# Altium footprint library Guitar_Multi_Effect_lib.PcbLib: 38 footprints (part 2 of 3)
Each footprint in its own frame and in the unit in brackets; x right, y up, seen from the top. Pads: shape width x height; smd on the part's side, far side on the other; paste and mask are expansions set on the pad; w line width, h text height; cw(c..) or ccw(c..) is an arc to the next point about the centre after c.
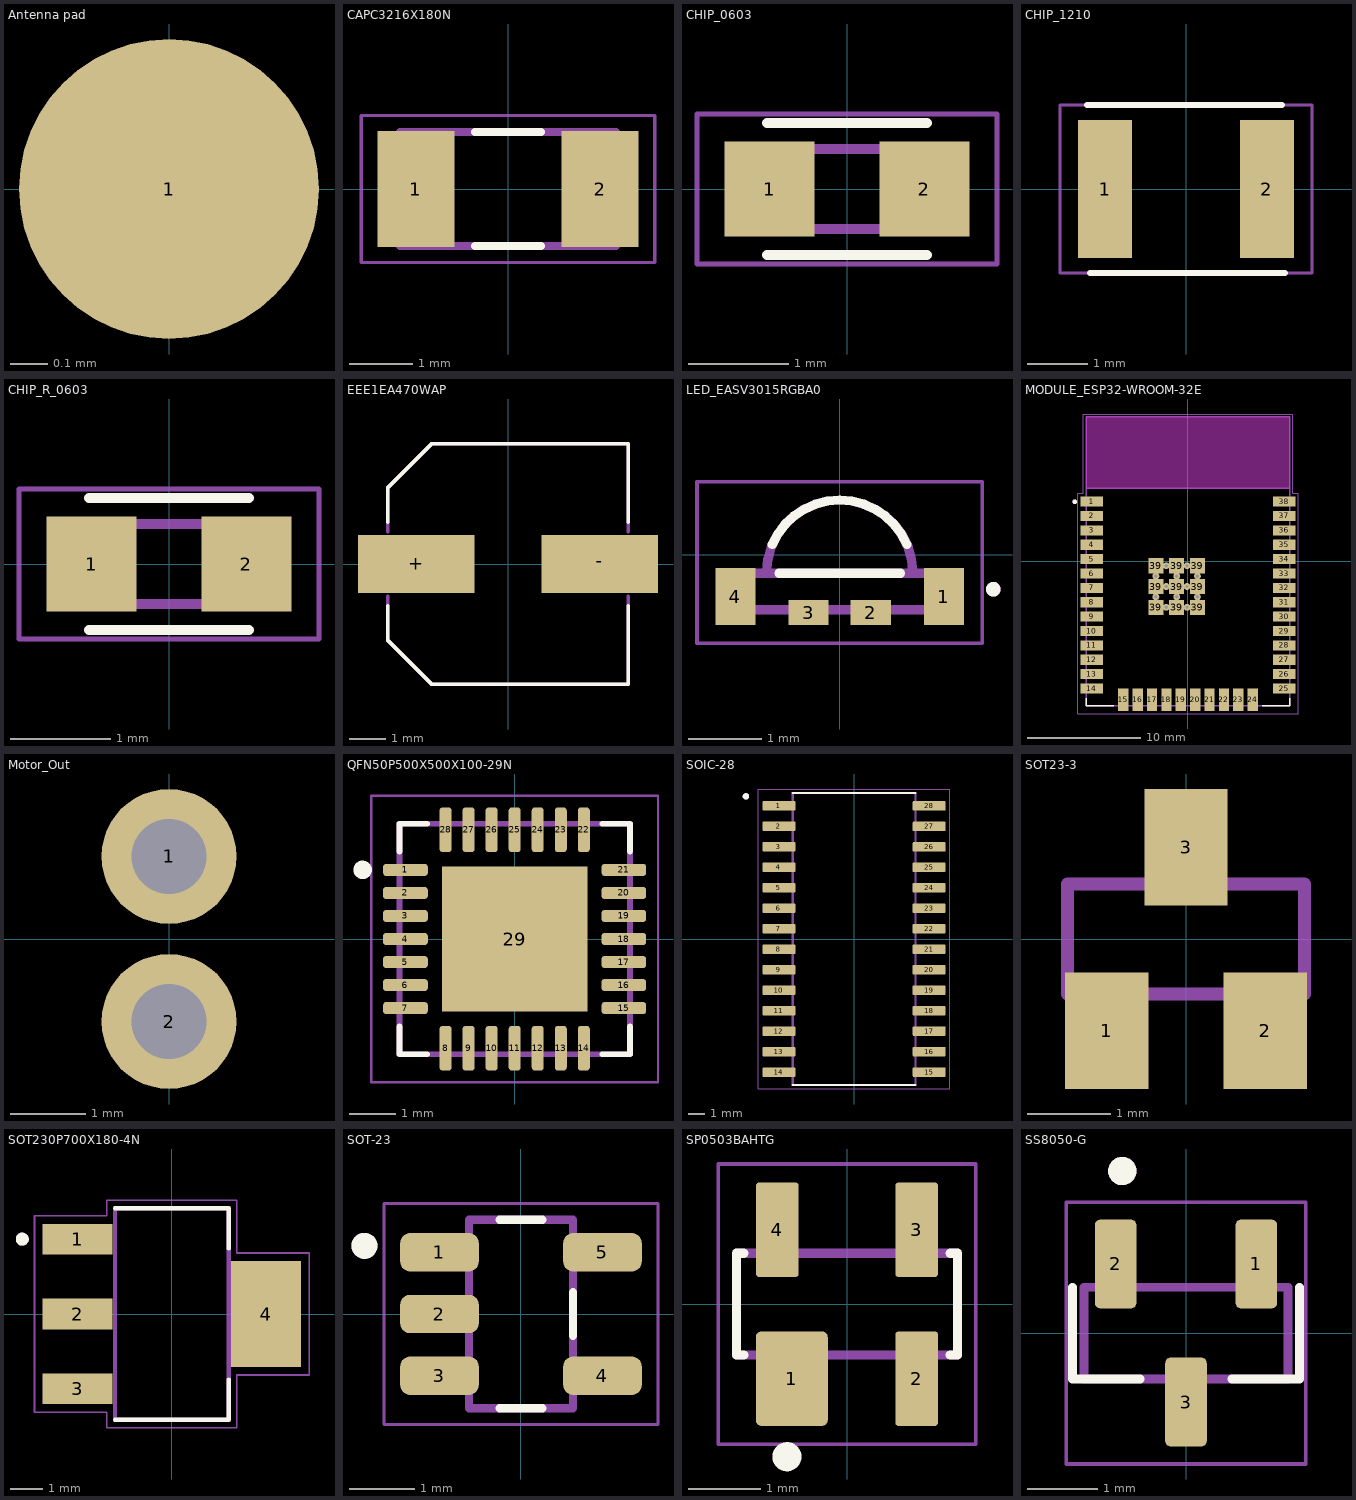
[diagram p1: the footprints below, top view; thin cyan lines are the x and y axes]

## Antenna pad [mm]
pads (1):
  round 0.8 smd: 1(0,0)

## CAPC3216X180N [mm]
pads (2):
  rect 1.21x1.82 smd: 1(-1.45,0) 2(1.45,0)
Top Overlay:
  lines w0.127: -0.52,-0.9 0.52,-0.9 ; -0.52,0.9 0.52,0.9
Mechanical 13:
  lines w0.127: -1.7,-0.9 1.7,-0.9 1.7,0.9 -1.7,0.9 -1.7,-0.9
Mechanical 15:
  lines w0.05: -2.308,-1.158 2.308,-1.158 2.308,1.158 -2.308,1.158 -2.308,-1.158
3D body "step_temp.STEP": height 1.8, standoff 0, extent -1.6,-0.8 1.6,0.8

## CHIP_0603 [mm] "Chip Capacitor, 2-Leads, Body 1.60x0.80mm, IPC Medium Density"
height 0.8
pads (2):
  rect 0.9x0.95 smd: 1(-0.775,0) 2(0.775,0)
Top Overlay:
  lines w0.1: -0.8,-0.66 0.8,-0.66 ; -0.8,0.66 0.8,0.66
Mechanical 2:
  lines w0.05: -1.5,-0.75 1.5,-0.75 1.5,0.75 -1.5,0.75 -1.5,-0.75
  lines w0.1: -0.8,-0.4 0.8,-0.4 0.8,0.4 -0.8,0.4 -0.8,-0.4
3D body "CHIP_0603.step": height 0.65, standoff 0, extent -0.75,-0.4 0.75,0.4

## CHIP_1210 [mm] "Chip Capacitor, 2-Leads, Body 3.20x2.50mm, IPC Medium Density"
height 1.4
pads (2):
  rect 0.9x2.3 smd: 1(-1.35,0) 2(1.35,0)
Top Overlay:
  lines w0.1: -1.651,1.397 1.599,1.397 ; -1.599,-1.397 1.651,-1.397
Mechanical 2:
  lines w0.05: -2.1,-1.4 2.1,-1.4 2.1,1.4 -2.1,1.4 -2.1,-1.4
3D body "CHIP_1210.step": height 1, standoff 0, extent -1.675,-1.35 1.725,1.35

## CHIP_R_0603 [mm] "Chip Resistor, 2-Leads, Body 1.60x0.80mm, IPC Medium Density"
height 0.8
pads (2):
  rect 0.9x0.95 smd: 1(-0.775,0) 2(0.775,0)
Top Overlay:
  lines w0.1: -0.8,-0.66 0.8,-0.66 ; -0.8,0.66 0.8,0.66
Mechanical 2:
  lines w0.05: -1.5,-0.75 -1.5,0.75 1.5,0.75 1.5,-0.75 -1.5,-0.75
  lines w0.1: -0.8,-0.4 -0.8,0.4 0.8,0.4 0.8,-0.4 -0.8,-0.4
3D body "R_0603.step": height 0.63, standoff 0, extent -0.75,-0.4 0.75,0.4

## EEE1EA470WAP [mm] "Aluminum Electrolytic Capacitor, Body 6.60x6.60x5.40mm, IPC Low Density"
height 5.4
pads (2):
  rect 3.2x1.6 smd: +(-2.521,0) -(2.521,0)
Top Overlay:
  lines w0.1: -3.3,-1.143 -3.3,-2.1 -2.1,-3.3 3.3,-3.3 3.3,-1.143 ; -3.3,1.143 -3.3,2.1 -2.1,3.3 3.3,3.3 3.3,1.143
Mechanical 2:
  lines w0.1: -3.3,-0.889 -3.3,-2.1 -2.1,-3.3 3.3,-3.3 3.3,-0.889 ; -3.3,0.889 -3.3,2.1 -2.1,3.3 3.3,3.3 3.3,0.889
3D body "EEE1EA470WAP.STEP": height 5.8, standoff 0, extent -3.65,-3.3 3.65,3.3

## LED_EASV3015RGBA0 [mm]
pads (4):
  rect 0.55x0.78 smd: 1(1.425,-0.57) 4(-1.425,-0.57)
  rect 0.55x0.34 smd: 2(0.425,-0.79) 3(-0.425,-0.79)
Top Overlay:
  circle w0.1: c2.1,-0.47 r0.05
  lines w0.127: -0.92,0.14 cw(c0,-0.251) 0.92,0.14 ; -0.83,-0.25 0.83,-0.25
Mechanical 13:
  circle w0.1: c2.1,-0.47 r0.05
  lines w0.127: -1,-0.233 cw(c0,-0.25) 1,-0.233 ; -1.55,-0.75 -1.55,-0.25 1.55,-0.25 1.55,-0.75 -1.55,-0.75
Mechanical 15:
  lines w0.05: -1.95,-1.21 -1.95,1 1.95,1 1.95,-1.21 -1.95,-1.21
3D body "EASV3015RGBA0--3DModel-STEP-56544.STEP": height 1.1, standoff 0, extent -1.5,-0.75 1.5,0.75

## MODULE_ESP32-WROOM-32E [mm]
pads (59):
  rect 2x0.9 smd: 1(-8.5,5.26) 2(-8.5,3.99) 3(-8.5,2.72) 4(-8.5,1.45) 5(-8.5,0.18) 6(-8.5,-1.09) 7(-8.5,-2.36) 8(-8.5,-3.63) 9(-8.5,-4.9) 10(-8.5,-6.17) 11(-8.5,-7.44) 12(-8.5,-8.71) 13(-8.5,-9.98) 14(-8.5,-11.25) 25(8.5,-11.25) 26(8.5,-9.98) 27(8.5,-8.71) 28(8.5,-7.44) 29(8.5,-6.17) 30(8.5,-4.9) 31(8.5,-3.63) 32(8.5,-2.36) 33(8.5,-1.09) 34(8.5,0.18) 35(8.5,1.45) 36(8.5,2.72) 37(8.5,3.99) 38(8.5,5.26)
  rect 0.9x2 smd: 15(-5.715,-12.25) 16(-4.445,-12.25) 17(-3.175,-12.25) 18(-1.905,-12.25) 19(-0.635,-12.25) 20(0.635,-12.25) 21(1.905,-12.25) 22(3.175,-12.25) 23(4.445,-12.25) 24(5.715,-12.25)
  rect 1.33x1.33 smd: 39(-2.835,-4.075) 39(-2.835,-2.24) 39(-2.835,-0.405) 39(-1,-4.075) 39(-1,-2.24) 39(-1,-0.405) 39(0.835,-4.075) 39(0.835,-2.24) 39(0.835,-0.405)
  round 0.6 hole 0.3: 39(-2.835,-3.157) 39(-2.835,-1.322) 39(-1.917,-4.075) 39(-1.917,-2.24) 39(-1.917,-0.405) 39(-1,-3.157) 39(-1,-1.322) 39(-0.082,-4.075) 39(-0.082,-2.24) 39(-0.082,-0.405) 39(0.835,-3.157) 39(0.835,-1.322)
Top Overlay:
  circle w0.2: c-10,5.25 r0.1
  lines w0.127: -9,-12.1 -9,-12.75 -6.55,-12.75 ; 6.55,-12.75 9,-12.75 9,-12.1
Keep-Out Layer:
  region: 9,6.45 -9,6.45 -9,12.75 9,12.75
  region: 9,6.45 -9,6.45 -9,12.75 9,12.75
Mechanical 13:
  circle w0.2: c-10,5.25 r0.1
  lines w0.127: -9,6.45 9,6.45 ; -9,6.45 -9,12.75 9,12.75 9,6.45 ; -9,6.45 -9,-12.75 9,-12.75 9,6.45
  text "ANTENNA" at -6,9 h1.78
Mechanical 15:
  lines w0.05: -9.75,-13.5 -9.75,6 -9.25,6 -9.25,13 9.25,13 9.25,6 9.75,6 9.75,-13.5 -9.75,-13.5
3D body "ESP32-WROOM-32--3DModel-STEP-56544.STEP": height 3.2, standoff 0, extent -9,-12.75 9,12.75

## Motor_Out [mm]
pads (2):
  round 1.8 hole 1: 1(0,1.1) 2(0,-1.1)

## QFN50P500X500X100-29N [mm]
pads (29):
  rrect50% 0.97x0.26 smd: 1(-2.37,1.5) 2(-2.37,1) 3(-2.37,0.5) 4(-2.37,0) 5(-2.37,-0.5) 6(-2.37,-1) 7(-2.37,-1.5) 15(2.37,-1.5) 16(2.37,-1) 17(2.37,-0.5) 18(2.37,0) 19(2.37,0.5) 20(2.37,1) 21(2.37,1.5)
  rrect50% 0.26x0.97 smd: 8(-1.5,-2.37) 9(-1,-2.37) 10(-0.5,-2.37) 11(0,-2.37) 12(0.5,-2.37) 13(1,-2.37) 14(1.5,-2.37) 22(1.5,2.37) 23(1,2.37) 24(0.5,2.37) 25(0,2.37) 26(-0.5,2.37) 27(-1,2.37) 28(-1.5,2.37)
  rect 3.15x3.15 smd paste-3: 29(0,0)
Top Overlay:
  circle w0.2: c-3.3,1.5 r0.1
  lines w0.127: -2.5,-1.9 -2.5,-2.5 -1.9,-2.5 ; -2.5,1.9 -2.5,2.5 -1.9,2.5 ; 1.9,-2.5 2.5,-2.5 2.5,-1.9 ; 1.9,2.5 2.5,2.5 2.5,1.9
Top Paste:
  region: 0.989,-0.991 -0.991,-0.991 -0.991,0.989 0.989,0.989
Mechanical 13:
  lines w0.127: -2.5,-2.5 -2.5,2.5 2.5,2.5 2.5,-2.5 -2.5,-2.5
Mechanical 15:
  lines w0.05: -3.11,-3.11 -3.11,3.11 3.11,3.11 3.11,-3.11 -3.11,-3.11
3D body "CP2102-GMR--3DModel-STEP-56544.STEP": height 1, standoff 0, extent -2.5,-2.5 2.5,2.5

## SOIC-28 [mm]
pads (28):
  rrect25% 2.05x0.59 smd: 1(-4.655,8.255) 2(-4.655,6.985) 3(-4.655,5.715) 4(-4.655,4.445) 5(-4.655,3.175) 6(-4.655,1.905) 7(-4.655,0.635) 8(-4.655,-0.635) 9(-4.655,-1.905) 10(-4.655,-3.175) 11(-4.655,-4.445) 12(-4.655,-5.715) 13(-4.655,-6.985) 14(-4.655,-8.255) 15(4.655,-8.255) 16(4.655,-6.985) 17(4.655,-5.715) 18(4.655,-4.445) 19(4.655,-3.175) 20(4.655,-1.905) 21(4.655,-0.635) 22(4.655,0.635) 23(4.655,1.905) 24(4.655,3.175) 25(4.655,4.445) 26(4.655,5.715) 27(4.655,6.985) 28(4.655,8.255)
Top Overlay:
  circle w0.2: c-6.705,8.845 r0.1
  lines w0.127: -3.8,-9.05 3.8,-9.05 ; -3.8,9.05 3.8,9.05
Mechanical 13:
  circle w0.2: c-6.705,8.845 r0.1
  lines w0.127: -3.8,-9.05 3.8,-9.05 3.8,9.05 -3.8,9.05 -3.8,-9.05
Mechanical 15:
  lines w0.05: -5.93,-9.3 5.93,-9.3 5.93,9.3 -5.93,9.3 -5.93,-9.3
3D body "step_temp.STEP": height 2.65, standoff 0, extent -5.162,-8.95 5.162,8.95

## SOT23-3 [mm]
pads (3):
  rect 1x1.4 smd: 1(-0.95,-1.1) 2(0.95,-1.1) 3(0,1.1)
Mechanical 13:
  region: 0.229,0.712 -0.229,0.712 -0.229,1.295 0.229,1.295
  region: 1.168,-1.297 0.712,-1.297 0.712,-0.711 1.168,-0.711
  region: -0.711,-1.297 -1.17,-1.297 -1.17,-0.711 -0.711,-0.711
  lines w0.152: -1.422,-0.66 1.422,-0.66 1.422,0.66 -1.422,0.66 -1.422,-0.66
3D body "SOT23-3.step": height 1.1, standoff 0, extent -1.5,-1.25 1.5,1.25

## SOT230P700X180-4N [mm]
pads (4):
  rect 2.15x0.95 smd: 1(-2.9,2.3) 2(-2.9,0) 3(-2.9,-2.3)
  rect 2.15x3.25 smd: 4(2.9,0)
Top Overlay:
  circle w0.2: c-4.6,2.3 r0.1
  lines w0.127: -1.75,-3.25 1.75,-3.25 1.75,-2.01 ; -1.75,3.25 1.75,3.25 1.75,2.01
Mechanical 13:
  circle w0.2: c-4.6,2.3 r0.1
  lines w0.127: -1.75,-3.25 -1.75,3.25 1.75,3.25 1.75,-3.25 -1.75,-3.25
Mechanical 15:
  lines w0.05: -4.225,-3.025 -4.225,3.025 -2,3.025 -2,3.5 2,3.5 2,1.875 4.225,1.875 4.225,-1.875 2,-1.875 2,-3.5 -2,-3.5 -2,-3.025 -4.225,-3.025
3D body "step_temp.STEP": height 1.8, standoff 0, extent -3.5,-3.25 3.5,3.25

## SOT-23 [mm]
pads (5):
  rrect50% 1.21x0.59 smd: 1(-1.255,0.95) 2(-1.255,0) 3(-1.255,-0.95) 4(1.255,-0.95) 5(1.255,0.95)
Top Overlay:
  circle w0.2: c-2.41,1.05 r0.1
  lines w0.127: -0.33,-1.45 0.33,-1.45 ; -0.33,1.45 0.33,1.45 ; 0.8,-0.335 0.8,0.335
Mechanical 13:
  circle w0.2: c-2.41,1.05 r0.1
  lines w0.127: -0.8,-1.45 0.8,-1.45 0.8,1.45 -0.8,1.45 -0.8,-1.45
Mechanical 15:
  lines w0.05: -2.11,-1.7 -2.11,1.7 2.11,1.7 2.11,-1.7 -2.11,-1.7
3D body "step_temp.STEP": height 1.45, standoff 0, extent -1.4,-1.45 1.4,1.45

## SP0503BAHTG [mm]
pads (4):
  rrect15% 0.99x1.3 smd: 1(-0.76,-1.025)
  rrect15% 0.59x1.3 smd: 2(0.96,-1.025) 3(0.96,1.025) 4(-0.96,1.025)
Top Overlay:
  circle w0.2: c-0.827,-2.1 r0.1
  lines w0.127: -1.42,-0.7 -1.52,-0.7 -1.52,0.7 -1.42,0.7 ; 1.42,-0.7 1.52,-0.7 1.52,0.7 1.42,0.7
Mechanical 13:
  lines w0.127: -1.52,-0.7 -1.52,0.7 1.52,0.7 1.52,-0.7 -1.52,-0.7
Mechanical 15:
  lines w0.05: -1.77,-1.93 -1.77,1.93 1.77,1.93 1.77,-1.93 -1.77,-1.93
3D body "SP0503BAHTG--3DModel-STEP-56544.STEP": height 1.22, standoff 0, extent -1.46,-1.185 1.46,1.185

## SS8050-G [mm]
pads (3):
  rrect25% 0.59x1.26 smd: 1(1,0.98) 2(-1,0.98) 3(0,-0.98)
Top Overlay:
  circle w0.2: c-0.905,2.3 r0.1
  lines w0.127: -1.61,0.65 -1.61,-0.65 -0.65,-0.65 ; 0.65,-0.65 1.61,-0.65 1.61,0.65
Mechanical 13:
  circle w0.2: c-0.905,2.3 r0.1
  lines w0.127: -1.45,-0.65 1.45,-0.65 1.45,0.65 -1.45,0.65 -1.45,-0.65
Mechanical 15:
  lines w0.05: -1.7,-1.86 1.7,-1.86 1.7,1.86 -1.7,1.86 -1.7,-1.86
3D body "2STR1215.STEP": height 1.1, standoff 0, extent -1.45,-1.15 1.45,1.15